# EAGLE library part ICS525 (library crasbe)
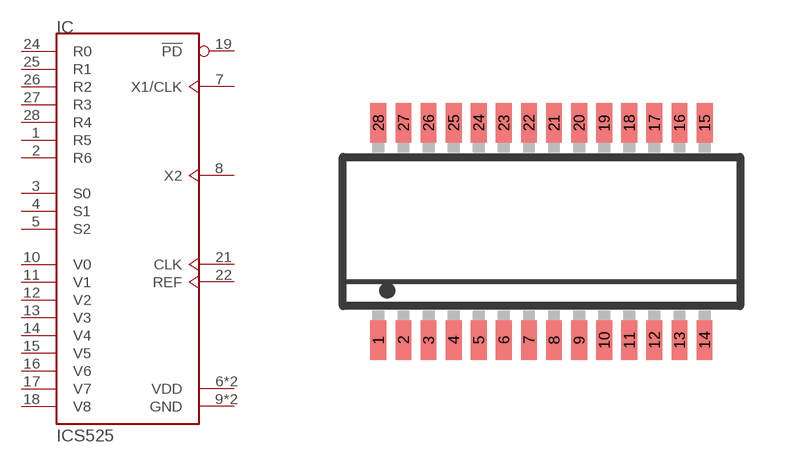
[diagram p46: symbol with the pads of QSOP-28; footprint QSOP-28]

Designator prefix IC

## ICS525-01  [QSOP-28]
1  R5  in
2  R6  in
3  S0  in
4  S1  in
5  S2  in
6  VDD  pwr
7  X1/CLK  in
8  X2  out
9  GND  pwr
10  V0  in
11  V1  in
12  V2  in
13  V3  in
14  V4  in
15  V5  in
16  V6  in
17  V7  in
18  V8  in
19  !PD  in
20  GND  pwr
21  CLK  out
22  REF  out
23  VDD  pwr
24  R0  in
25  R1  in
26  R2  in
27  R3  in
28  R4  in

## Footprint QSOP-28 (pad centres in mm)
smd 0.4 x 1: 1 -2.858,-2.75; 2 -2.223,-2.75; 3 -1.588,-2.75; 4 -0.953,-2.75; 5 -0.318,-2.75; 6 0.318,-2.75; 7 0.953,-2.75; 8 1.588,-2.75; 9 2.223,-2.75; 10 2.858,-2.75; 11 3.492,-2.75; 12 4.127,-2.75; 13 4.762,-2.75; 14 5.397,-2.75; 15 5.398,2.75; 16 4.762,2.75; 17 4.127,2.75; 18 3.492,2.75; 19 2.857,2.75; 20 2.222,2.75; 21 1.587,2.75; 22 0.952,2.75; 23 0.317,2.75; 24 -0.318,2.75; 25 -0.953,2.75; 26 -1.588,2.75; 27 -2.223,2.75; 28 -2.858,2.75